# Altium schematic symbol library ESP.SchLib: 9 symbols
Pins are listed as number, name and electrical type; pins without a type are passive.

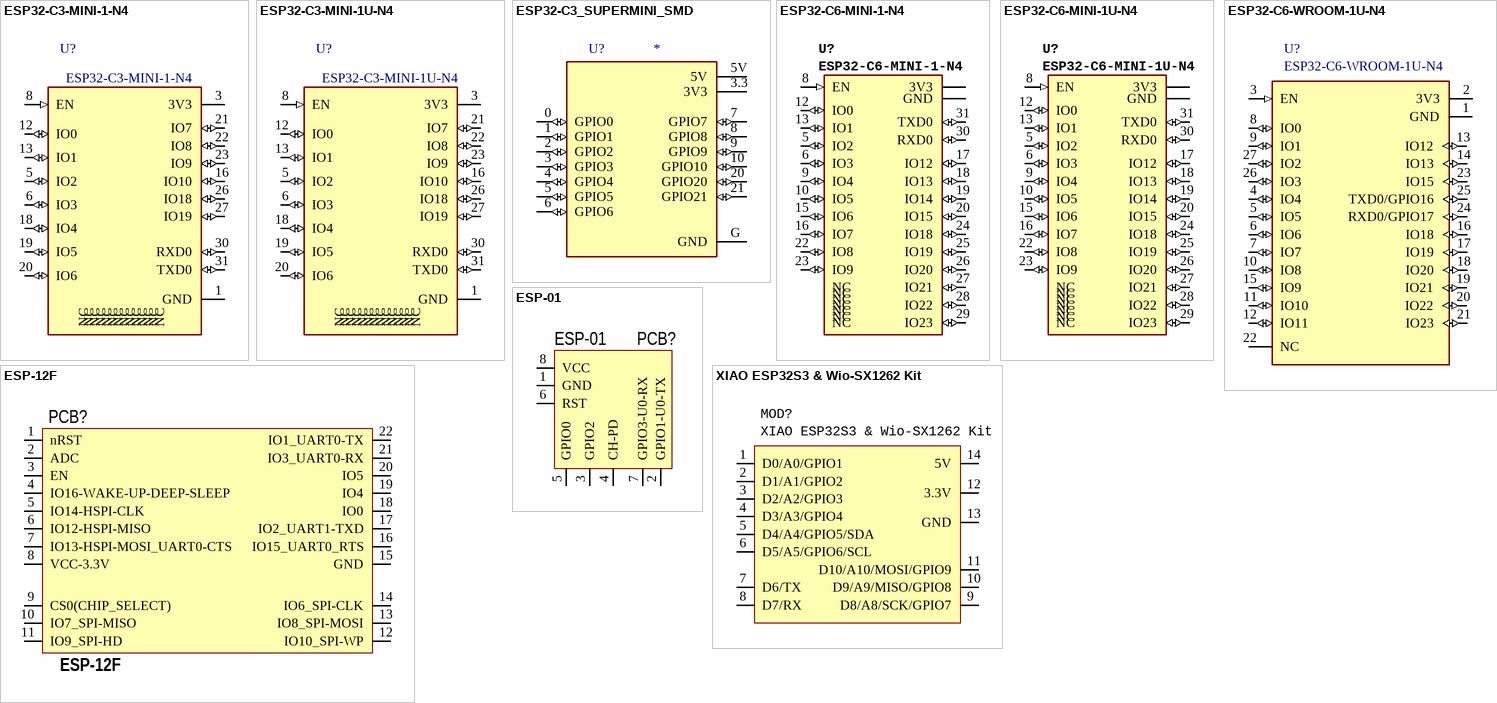
[diagram p0: symbols ESP32-C3-MINI-1-N4 to XIAO ESP32S3 & Wio-SX1262 Kit]

## ESP32-C3-MINI-1-N4
designator U?
Bluetooth, WiFi 802.11b/g/n, Bluetooth v5.0 Transceiver Module 2.412GHz ~ 2.484GHz; / Onboard Antenna; MP: ESP32-C3-MINI-1U-N4; MF: Espressif Systems; Value: *; SnapEDA_Link: https://www.snapeda.com/parts/ESP32-C3-MINI-1U-N4/Espressif+Systems/view-part/?ref=snap; Purchase-URL: https://pricing.snapeda.com/search/part/ESP32-C3-MINI-1U-N4/?ref=eda; Check_prices: https://www.snapeda.com/parts/ESP32-C3-MINI-1U-N4/Espressif+Systems/view-part/?ref=eda; Availability: In Stock; Price: None; Package: SMD-53 Espressif Systems
footprint SMD-53 Espressif Systems (Onboard Antenna) (Acepted modules: / ESP32-C3-MINI-1-N4 / ESP32-C6-MINI-1-N4)
pins: 1 GND (power), 2 GND (power), 3 3V3 (power), 4 NC, 5 IO2 (io), 6 IO3 (io), 7 NC, 8 EN (in), 9 NC, 10 NC, 11 GND (power), 12 IO0 (io), 13 IO1 (io), 14 GND (power), 15 NC, 16 IO10 (io), 17 NC, 18 IO4 (io), 19 IO5 (io), 20 IO6 (io), 21 IO7 (io), 22 IO8 (io), 23 IO9 (io), 24 NC, 25 NC, 26 IO18 (io), 27 IO19 (io), 28 NC, 29 NC, 30 RXD0 (io), 31 TXD0 (io), 32 NC, 33 NC, 34 NC, 35 NC, 36 GND (power), 37 GND (power), 38 GND (power), 39 GND (power), 40 GND (power), 41 GND (power), 42 GND (power), 43 GND (power), 44 GND (power), 45 GND (power), 46 GND (power), 47 GND (power), 48 GND (power), 49_1 GND (power), 49_2 GND (power), 49_3 GND (power), 49_4 GND (power), 49_5 GND (power), 49_6 GND (power), 49_7 GND (power), 49_8 GND (power), 49_9 GND (power), 50 GND (power), 51 GND (power), 52 GND (power), 53 GND (power) "All GND in One Pin"

## ESP32-C3-MINI-1U-N4
designator U?
Bluetooth, WiFi 802.11b/g/n, Bluetooth v5.0 Transceiver Module 2.412GHz ~ 2.484GHz; / Antenna (not included): / Hirose W.FL / I-PEX MHF III (MHF3, IPEX3) / Amphenol AMMC; MF: Espressif Systems; Value: *; SnapEDA_Link: https://www.snapeda.com/parts/ESP32-C3-MINI-1U-N4/Espressif+Systems/view-part/?ref=snap; MP: ESP32-C3-MINI-1U-N4; Purchase-URL: https://pricing.snapeda.com/search/part/ESP32-C3-MINI-1U-N4/?ref=eda; Check_prices: https://www.snapeda.com/parts/ESP32-C3-MINI-1U-N4/Espressif+Systems/view-part/?ref=eda; Availability: In Stock; Price: None; Package: SMD-53 Espressif Systems
footprint SMD-53 Espressif Systems (External Antenna) (Acepted modules: / ESP32-C3-MINI-1U-N4 / ESP32-C6-MINI-1U-N4 / Antenna (not included): / Hirose W.FL / I-PEX MHF III (MHF3, IPEX3) / Amphenol AMMC)
pins: 1 GND (power), 2 GND (power), 3 3V3 (power), 4 NC, 5 IO2 (io), 6 IO3 (io), 7 NC, 8 EN (in), 9 NC, 10 NC, 11 GND (power), 12 IO0 (io), 13 IO1 (io), 14 GND (power), 15 NC, 16 IO10 (io), 17 NC, 18 IO4 (io), 19 IO5 (io), 20 IO6 (io), 21 IO7 (io), 22 IO8 (io), 23 IO9 (io), 24 NC, 25 NC, 26 IO18 (io), 27 IO19 (io), 28 NC, 29 NC, 30 RXD0 (io), 31 TXD0 (io), 32 NC, 33 NC, 34 NC, 35 NC, 36 GND (power), 37 GND (power), 38 GND (power), 39 GND (power), 40 GND (power), 41 GND (power), 42 GND (power), 43 GND (power), 44 GND (power), 45 GND (power), 46 GND (power), 47 GND (power), 48 GND (power), 49_1 GND (power), 49_2 GND (power), 49_3 GND (power), 49_4 GND (power), 49_5 GND (power), 49_6 GND (power), 49_7 GND (power), 49_8 GND (power), 49_9 GND (power), 50 GND (power), 51 GND (power), 52 GND (power), 53 GND (power) "All GND in One Pin"

## ESP32-C3_SUPERMINI_SMD
designator U?
Super tiny ESP32-C3 board; MF: Espressif Systems; MP: ESP32-C3 SuperMini_SMD; SnapEDA_Link: https://www.snapeda.com/parts/ESP32-C3%20SuperMini_SMD/Espressif+Systems/view-part/?ref=snap; Package: None; Value: *; Check_prices: https://www.snapeda.com/parts/ESP32-C3%20SuperMini_SMD/Espressif+Systems/view-part/?ref=eda
footprint MODULE_ESP32-C3_SUPERMINI
footprint MODULE_ESP32-C3_SUPERMINI(PTH) (Welded with header 2.54mm)
pins: 0 GPIO0 (io), 1 GPIO1 (io), 2 GPIO2 (io), 3 GPIO3 (io), 3.3 3V3 (power), 4 GPIO4 (io), 5 GPIO5 (io), 5V (power), 6 GPIO6 (io), 7 GPIO7 (io), 8 GPIO8 (io), 9 GPIO9 (io), 10 GPIO10 (io), 20 GPIO20 (io), 21 GPIO21 (io), G GND (power)

## ESP32-C6-MINI-1-N4
designator U?
802.15.4, Bluetooth, WiFi 802.11ax, Bluetooth v5.0, ZigbeeÂ® Transceiver Module 2.4GHz; Onboard Antenna; MF: Espressif Systems; Package: SMD-53 Espressif Systems; Value: *; MP: ESP32-C6-MINI-1-N4
footprint SMD-53 Espressif Systems (Onboard Antenna) (Acepted modules: / ESP32-C3-MINI-1-N4 / ESP32-C6-MINI-1-N4)
pins: 1 GND (power), 2 GND (power), 3 3V3 (power), 4 NC, 5 IO2 (io), 6 IO3 (io), 7 NC, 8 EN (in), 9 IO4 (io), 10 IO5 (io), 11 GND (power), 12 IO0 (io), 13 IO1 (io), 14 GND (power), 15 IO6 (io), 16 IO7 (io), 17 IO12 (io), 18 IO13 (io), 19 IO14 (io), 20 IO15 (io), 21 NC, 22 IO8 (io), 23 IO9 (io), 24 IO18 (io), 25 IO19 (io), 26 IO20 (io), 27 IO21 (io), 28 IO22 (io), 29 IO23 (io), 30 RXD0 (io), 31 TXD0 (io), 32 NC, 33 NC, 34 NC, 35 NC, 36 GND (power), 37 GND (power), 38 GND (power), 39 GND (power), 40 GND (power), 41 GND (power), 42 GND (power), 43 GND (power), 44 GND (power), 45 GND (power), 46 GND (power), 47 GND (power), 48 GND (power), 49_1 GND (power), 49_2 GND (power), 49_3 GND (power), 49_4 GND (power), 49_5 GND (power), 49_6 GND (power), 49_7 GND (power), 49_8 GND (power), 49_9 GND (power), 50 GND (power), 51 GND (power), 52 GND (power), 53 GND (power)

## ESP32-C6-MINI-1U-N4
designator U?
802.15.4, Bluetooth, WiFi 802.11ax, Bluetooth v5.0, ZigbeeÂ® Transceiver Module 2.4GHz; / Antenna (not included): / Hirose W.FL / I-PEX MHF III (MHF3, IPEX3) / Amphenol AMMC; MF: Espressif Systems; MP: ESP32-C6-MINI-1-N4; Package: SMD-53 Espressif Systems; Value: *
footprint SMD-53 Espressif Systems (External Antenna) (Acepted modules: / ESP32-C3-MINI-1U-N4 / ESP32-C6-MINI-1U-N4 / Antenna (not included): / Hirose W.FL / I-PEX MHF III (MHF3, IPEX3) / Amphenol AMMC)
pins: 1 GND (power), 2 GND (power), 3 3V3 (power), 4 NC, 5 IO2 (io), 6 IO3 (io), 7 NC, 8 EN (in), 9 IO4 (io), 10 IO5 (io), 11 GND (power), 12 IO0 (io), 13 IO1 (io), 14 GND (power), 15 IO6 (io), 16 IO7 (io), 17 IO12 (io), 18 IO13 (io), 19 IO14 (io), 20 IO15 (io), 21 NC, 22 IO8 (io), 23 IO9 (io), 24 IO18 (io), 25 IO19 (io), 26 IO20 (io), 27 IO21 (io), 28 IO22 (io), 29 IO23 (io), 30 RXD0 (io), 31 TXD0 (io), 32 NC, 33 NC, 34 NC, 35 NC, 36 GND (power), 37 GND (power), 38 GND (power), 39 GND (power), 40 GND (power), 41 GND (power), 42 GND (power), 43 GND (power), 44 GND (power), 45 GND (power), 46 GND (power), 47 GND (power), 48 GND (power), 49_1 GND (power), 49_2 GND (power), 49_3 GND (power), 49_4 GND (power), 49_5 GND (power), 49_6 GND (power), 49_7 GND (power), 49_8 GND (power), 49_9 GND (power), 50 GND (power), 51 GND (power), 52 GND (power), 53 GND (power)

## ESP32-C6-WROOM-1U-N4
designator U?
802.15.4, Bluetooth, WiFi 802.11ax, Bluetooth v5.3, ZigbeeÂ® Transceiver Module 2.4GHz Antenna Not Included, U.FL Surface Mount; MF: Espressif Systems; SnapEDA_Link: https://www.snapeda.com/parts/ESP32-C6-WROOM-1U-N4/Espressif+Systems/view-part/?ref=snap; Package: SMD-37 Espressif Systems; Value: *; MP: ESP32-C6-WROOM-1U-N4; Check_prices: https://www.snapeda.com/parts/ESP32-C6-WROOM-1U-N4/Espressif+Systems/view-part/?ref=eda
footprint ESP32-C6-WROOM-1U-N4
pins: 1 GND (power), 2 3V3 (power), 3 EN (in), 4 IO4 (io), 5 IO5 (io), 6 IO6 (io), 7 IO7 (io), 8 IO0 (io), 9 IO1 (io), 10 IO8 (io), 11 IO10 (io), 12 IO11 (io), 13 IO12 (io), 14 IO13 (io), 15 IO9 (io), 16 IO18 (io), 17 IO19 (io), 18 IO20 (io), 19 IO21 (io), 20 IO22 (io), 21 IO23 (io), 22 NC, 23 IO15 (io), 24 RXD0/GPIO17 (io), 25 TXD0/GPIO16 (io), 26 IO3 (io), 27 IO2 (io), 28 GND (power), 29_1 GND (power), 29_2 GND (power), 29_3 GND (power), 29_4 GND (power), 29_5 GND (power), 29_6 GND (power), 29_7 GND (power), 29_8 GND (power), 29_9 GND (power)

## ESP-01
designator PCB?
footprint ESP-01
pins: 1 GND, 2 GPIO1-U0-TX, 3 GPIO2, 4 CH-PD, 5 GPIO0, 6 RST, 7 GPIO3-U0-RX, 8 VCC

## ESP-12F
designator PCB?
footprint ESP-12E
pins: 1 nRST, 2 ADC, 3 EN, 4 IO16-WAKE-UP-DEEP-SLEEP, 5 IO14-HSPI-CLK, 6 IO12-HSPI-MISO, 7 IO13-HSPI-MOSI_UART0-CTS, 8 VCC-3.3V, 9 CS0(CHIP_SELECT), 10 IO7_SPI-MISO, 11 IO9_SPI-HD, 12 IO10_SPI-WP, 13 IO8_SPI-MOSI, 14 IO6_SPI-CLK, 15 GND, 16 IO15_UART0_RTS, 17 IO2_UART1-TXD, 18 IO0, 19 IO4, 20 IO5, 21 IO3_UART0-RX, 22 IO1_UART0-TX

## XIAO ESP32S3 & Wio-SX1262 Kit
designator MOD?
footprint XIAO ESP32S3 & Wio-SX1262 Kit_TOP (2.54 mm pitch TH footprint / Classic position*)
footprint XIAO ESP32S3 & Wio-SX1262 Kit_UPSIDE_DOWN (2.54 mm pitch TH footprint / UPSIDE*)
footprint XIAO ESP32S3 & Wio-SX1262 Kit_UPSIDE_DOWN2 (2.54 mm pitch TH footprint / UPSIDE-2*)
footprint XIAO ESP32S3 & Wio-SX1262 Kit_TOP_Welded (2.54 mm pitch TH footprint / Classic position*)
pins: 1 D0/A0/GPIO1, 2 D1/A1/GPIO2, 3 D2/A2/GPIO3, 4 D3/A3/GPIO4, 5 D4/A4/GPIO5/SDA, 6 D5/A5/GPIO6/SCL, 7 D6/TX, 8 D7/RX, 9 D8/A8/SCK/GPIO7, 10 D9/A9/MISO/GPIO8, 11 D10/A10/MOSI/GPIO9, 12 3.3V, 13 GND, 14 5V